# Altium integrated library AudioDevice.IntLib: 6 symbols
Pins are listed as number, name and electrical type; pins without a type are passive.

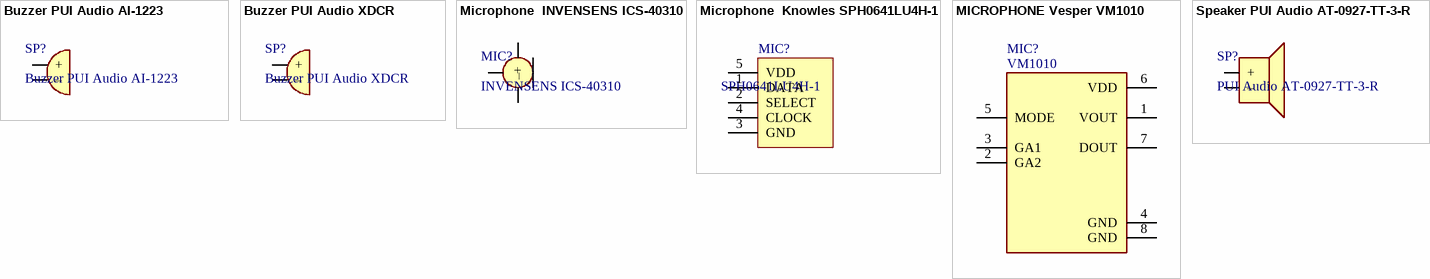
[diagram p0: symbols Buzzer PUI Audio AI-1223 to Speaker PUI Audio AT-0927-TT-3-R]

## Buzzer PUI Audio AI-1223
designator SP?
Buzzers Transducer, Externally Driven Magnetic 3V 35mA 2kHz 80dB; Value: Buzzer PUI Audio AI-1223
footprint Buzzer PUI Audio AI-1223 (Buzzer PUI Audio AI-1223 D12.0 H7.5)
pins: 1 +, 2 –

## Buzzer PUI Audio XDCR
designator SP?
Buzzers Transducer, Externally Driven Magnetic 3V 35mA 2kHz 80dB; Value: Buzzer PUI Audio XDCR
footprint Buzzer PUI Audio XDCR (Buzzer PUI Audio XDCR D12.0 H9.0)
pins: 1 +, 2 –

## Microphone  INVENSENS ICS-40310
designator MIC?, comment INVENSENS ICS-40310
Ultra-low Current, Low-Noise Microphone with Analog Output; Value: INVENSENS ICS-40310
footprint Microphone  INVENSENS ICS-40310
pins: 1 OUT, 2 –, 3 +

## Microphone  Knowles SPH0641LU4H-1
designator MIC?, comment SPH0641LU4H-1
miniature, high-performance, low power, bottom port silicon digital Microphone; Value: SPH0641LU4H-1
footprint Microphone  KNOWLESS SPH0641LU4H-1
pins: 1 DATA, 2 SELECT, 3 GND, 4 CLOCK, 5 VDD

## MICROPHONE Vesper VM1010
designator MIC?, comment VM1010
VM1010Low Noise Bottom Port Analog Piezoelectric MEMS Microphonewith Wake on Sound; Value: VM1010
footprint MICROPHONE Vesper VM1010
pins: 1 VOUT, 2 GA2, 3 GA1, 4 GND, 5 MODE, 6 VDD, 7 DOUT, 8 GND

## Speaker PUI Audio AT-0927-TT-3-R
designator SP?, comment PUI Audio AT-0927-TT-3-R
Speaker PUI Audio AT-0927-TT-3-R; Value: PUI Audio AT-0927-TT-3-R
footprint Speaker PUI Audio AT-0927-TT-3-R (Speaker PUI Audio AT-0927-TT-3-R D9.0 H4.2)
pins: 1 +, 2 –